# EAGLE library part DB-9F (library Digilent)
163-005: Female DB-9, DCE
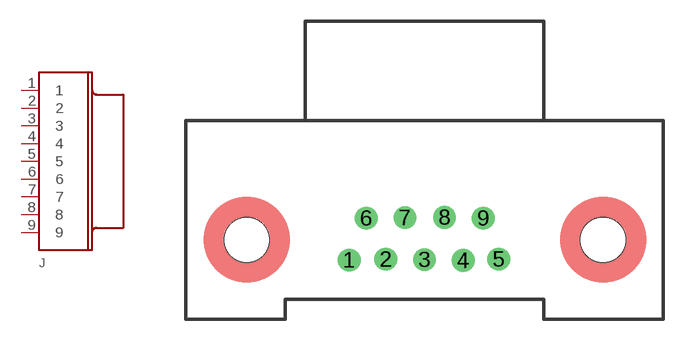
[diagram p37: symbol with the pads of CON-DB9F; footprint CON-DB9F]

Designator prefix J

## DB-9F  [CON-DB9F]
1  1  pas
2  2  pas
3  3  pas
4  4  pas
5  5  pas
6  6  pas
7  7  pas
8  8  pas
9  9  pas

## Footprint CON-DB9F (pad centres in mm)
drill 1.067 round: 1 -5.29,-0.031; 2 -2.714,0.031; 3 0,0; 4 2.714,-0.061; 5 5.214,0.03; 6 -4.098,2.915; 7 -1.376,2.946; 8 1.407,2.977; 9 4.129,2.915
hole 3.175 at -12.481,1.397
hole 3.175 at 12.542,1.397